# Altium footprint library MIC24085 Reference Lib.PcbLib: 5 footprints
Each footprint in its own frame and in the unit in brackets; x right, y up, seen from the top. Pads: shape width x height; smd on the part's side, far side on the other; paste and mask are expansions set on the pad; w line width, h text height; cw(c..) or ccw(c..) is an arc to the next point about the centre after c.
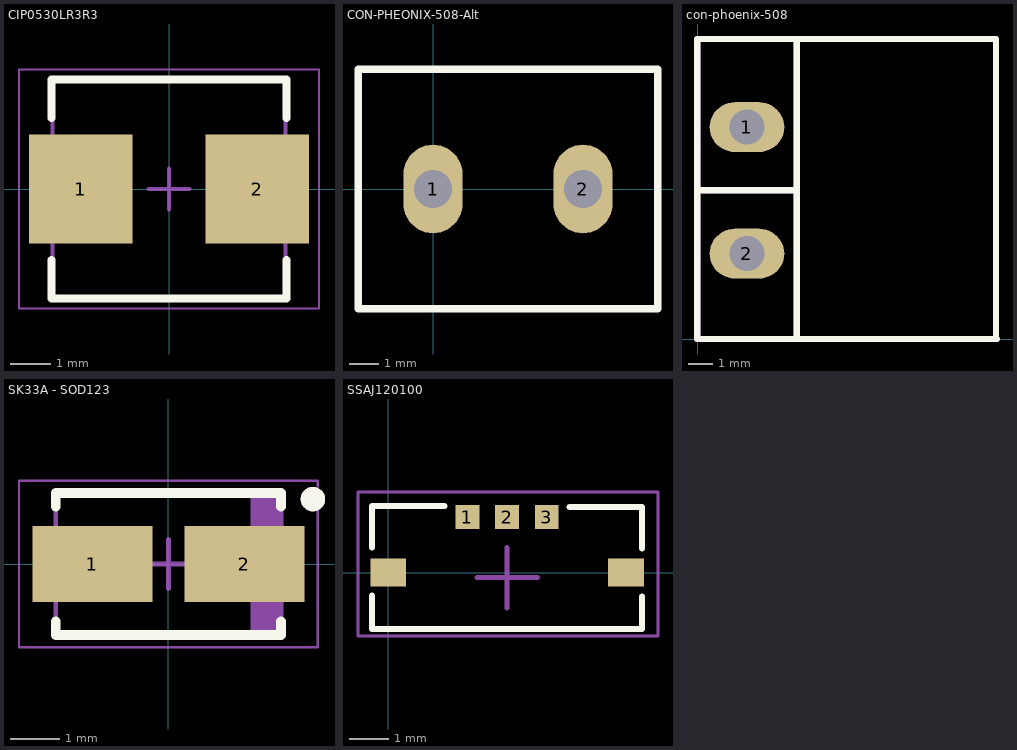
[diagram p0: the footprints below, top view; thin cyan lines are the x and y axes]

## CIP0530LR3R3 [mm] "Precision Wire Wound Inductor, 2-Leads, Body 5.58x5.30mm, IPC Medium Density"
height 2.29
pads (2):
  rect 2.55x2.7 smd: 1(-2.175,0) 2(2.175,0)
Top Overlay:
  lines w0.2: -2.9,-1.75 -2.9,-2.7 2.9,-2.7 2.9,-1.75 ; -2.9,1.75 -2.9,2.7 2.9,2.7 2.9,1.75
Mechanical 13:
  lines w0.1: -2.875,-2.7 -2.875,2.7 2.875,2.7 2.875,-2.7 -2.875,-2.7
Mechanical 15:
  lines w0.05: -3.7,-2.95 -3.7,2.95 3.7,2.95 3.7,-2.95 -3.7,-2.95
  lines w0.1: -0.5,0 0.5,0 ; 0,-0.5 0,0.5
3D body: height 2.29, standoff 0, extent -2.875,-2.7 2.875,2.7

## CON-PHEONIX-508-Alt [mm]
pads (2):
  oval 2x3 hole 1.3: 1(0,0) 2(5.08,0)
Top Overlay:
  lines w0.254: -2.54,-4.064 -2.54,0 -2.54,4.064 0,4.064 2.54,4.064 5.08,4.064 7.62,4.064 7.62,0 7.62,-4.064 -2.54,-4.064

## con-phoenix-508 [mm] "con-phoenix-508"
pads (2):
  oval 3x2 hole 1.4: 1(1.968,8.509) 2(1.968,3.429)
Top Overlay:
  lines w0.254: -0.032,0 -0.032,12.049 11.968,12.049 11.968,0 ; -0.032,5.969 3.968,5.969 3.968,0 ; 0,0 12.001,0 ; 3.968,5.842 3.968,12.017
Mechanical 1:
  lines w0.254: -0.032,0 -0.032,12.049 11.968,12.049 11.968,0 ; -0.032,5.969 3.968,5.969 3.968,0 ; 0,0 12.001,0 ; 3.968,5.842 3.968,12.017

## SK33A - SOD123 [mm] "Molded Diode, 2-Leads, Body 4.30x2.70mm, IPC Medium Density"
height 2.44
pads (2):
  rect 2.45x1.55 smd: 1(-1.55,0) 2(1.55,0)
Top Overlay:
  circle w0.25: c2.95,1.325 r0.125
  lines w0.2: -2.3,-1.175 -2.3,-1.45 2.3,-1.45 2.3,-1.175 ; -2.3,1.175 -2.3,1.45 2.3,1.45 2.3,1.175
Mechanical 13:
  rectangle: 1.681,-1.45 2.3,1.45
  lines w0.1: -2.3,-1.45 -2.3,1.45 2.3,1.45 2.3,-1.45 -2.3,-1.45
Mechanical 15:
  lines w0.05: -3.05,-1.7 -3.05,1.7 3.05,1.7 3.05,-1.7 -3.05,-1.7
  lines w0.1: -0.5,0 0.5,0 ; 0,-0.5 0,0.5
3D body: height 2.44, standoff 0, extent -2.3,-1.45 2.3,1.45

## SSAJ120100 [mm] "SSAJ120100"
pads (5):
  rect 0.6x0.6 smd: 1(2,1.4) 2(3,1.4) 3(4,1.4)
  rect 0.9x0.7 smd: ""(0,0) ""(6,0)
Top Overlay:
  lines w0.152: -0.406,-0.584 -0.406,-1.422 4.928,-1.422 6.401,-1.422 6.401,-0.61 ; -0.406,0.635 -0.406,1.676 1.422,1.676 ; 4.572,1.651 6.401,1.651 6.401,0.61
Mechanical 15:
  lines w0.076: -0.762,-1.6 6.807,-1.6 6.807,2.032 6.604,2.032 -0.762,2.032 -0.762,-1.6
  lines w0.127: 2.238,-0.127 3.762,-0.127 ; 3,-0.889 3,0.635
3D body: height 0.7, standoff 0, extent -0.253,-2.475 6.247,1.5